# Altium schematic symbol library IB0505LS.SchLib: 1 symbol
Pins are listed as number, name and electrical type; pins without a type are passive.

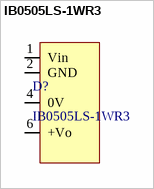
[diagram p0: symbol IB0505LS-1WR3]

## IB0505LS-1WR3
designator D?
DC/DC-隔离定电压输入电源(0.2-3W)
footprint IB_LS-1WR3
pins: 1 Vin, 2 GND, 4 0V, 6 +Vo